# Altium schematic symbol library Schematic Library.SchLib: 5 symbols
Pins are listed as number, name and electrical type; pins without a type are passive.

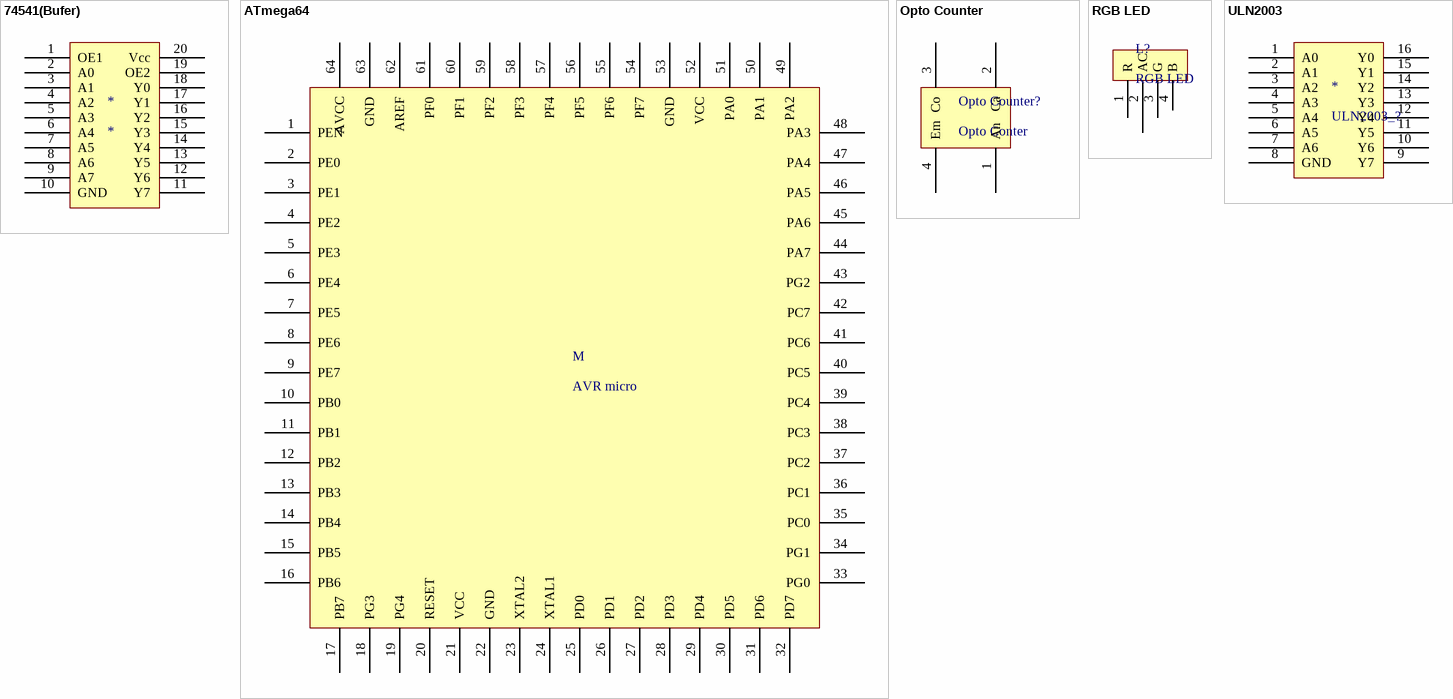
[diagram p0: symbols 74541(Bufer) to ULN2003]

## 74541(Bufer)
designator *
pins: 1 OE1, 2 A0, 3 A1, 4 A2, 5 A3, 6 A4, 7 A5, 8 A6, 9 A7, 10 GND, 11 Y7, 12 Y6, 13 Y5, 14 Y4, 15 Y3, 16 Y2, 17 Y1, 18 Y0, 19 OE2, 20 Vcc

## ATmega64
designator M, comment AVR micro
pins: 1 PEN, 2 PE0, 3 PE1, 4 PE2, 5 PE3, 6 PE4, 7 PE5, 8 PE6, 9 PE7, 10 PB0, 11 PB1, 12 PB2, 13 PB3, 14 PB4, 15 PB5, 16 PB6, 17 PB7, 18 PG3, 19 PG4, 20 RESET, 21 VCC (power), 22 GND (power), 23 XTAL2, 24 XTAL1, 25 PD0, 26 PD1, 27 PD2, 28 PD3, 29 PD4, 30 PD5, 31 PD6, 32 PD7, 33 PG0, 34 PG1, 35 PC0, 36 PC1, 37 PC2, 38 PC3, 39 PC4, 40 PC5, 41 PC6, 42 PC7, 43 PG2, 44 PA7, 45 PA6, 46 PA5, 47 PA4, 48 PA3, 49 PA2, 50 PA1, 51 PA0, 52 VCC (power), 53 GND (power), 54 PF7, 55 PF6, 56 PF5, 57 PF4, 58 PF3, 59 PF2, 60 PF1, 61 PF0, 62 AREF, 63 GND (power), 64 AVCC (power)

## Opto Counter
designator Opto Counter?, comment Opto Conter
pins: 1 An, 2 Ca, 3 Co, 4 Em

## RGB LED
designator L?
pins: 1 R "Red", 2 AC "Anode Common", 3 G "Green", 4 B "Blue"

## ULN2003
designator *, comment ULN2003_?
pins: 1 A0, 2 A1, 3 A2, 4 A3, 5 A4, 6 A5, 7 A6, 8 GND, 9 Y7, 10 Y6, 11 Y5, 12 Y4, 13 Y3, 14 Y2, 15 Y1, 16 Y0